# Altium footprint library net_ties.PcbLib: 4 footprints
Each footprint in its own frame and in the unit in brackets; x right, y up, seen from the top. Pads: shape width x height; smd on the part's side, far side on the other; paste and mask are expansions set on the pad; w line width, h text height; cw(c..) or ccw(c..) is an arc to the next point about the centre after c.
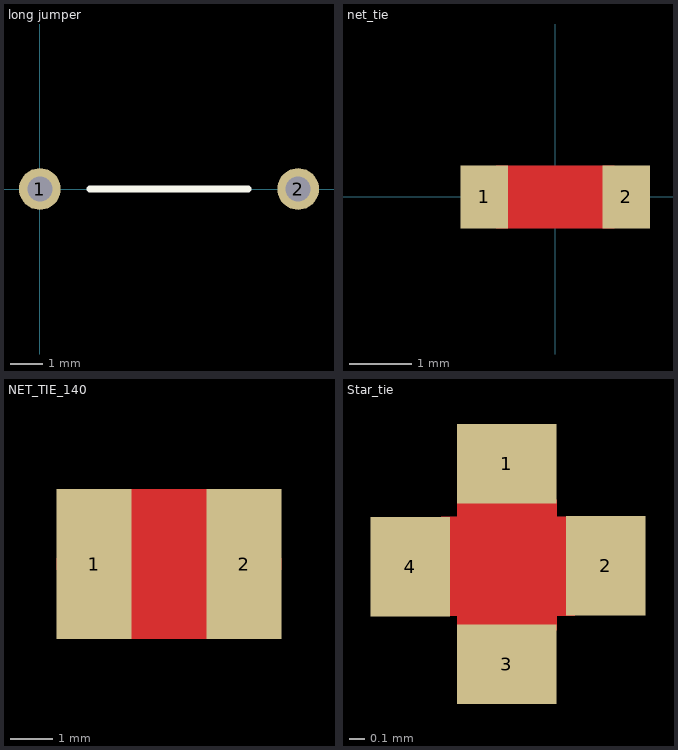
[diagram p0: the footprints below, top view; thin cyan lines are the x and y axes]

## long jumper [mil]
pads (2):
  round 50 hole 30: 1(0,0) 2(310,0)
Top Overlay:
  lines w8: 60,0 250,0

## net_tie [mil]
pads (2):
  rect 30x40 smd paste-100 mask-100: 1(-45,0) 2(45,0)
Top Layer:
  region: -125,30
  lines w40: -35,0 35,0

## NET_TIE_140 [mil]
pads (2):
  rect 70x140 smd paste-100 mask-100: 1(-11575,5495) 2(-11435,5495)
Top Layer:
  lines w140: -11540,5495 -11470,5495

## Star_tie [mil]
pads (4):
  rect 25x20 smd paste-100 mask-100: 1(-26762.49,680.64) 3(-26762.49,630.26)
  rect 20x25 smd paste-100 mask-100: 2(-26737.66,654.99) 4(-26786.7,654.78)
Top Layer:
  region: -26745.42,667.45 -26745.42,642.48 -26778.84,642.46 -26778.84,667.42 -26763.57,667.28
  region: -26774.88,671.64 -26749.93,671.64 -26749.91,638.84 -26774.87,638.84 -26774.72,654.84
  region: -26793.56,667.51